# Altium footprint library UserLib.PcbLib: 1 footprints
Each footprint in its own frame and in the unit in brackets; x right, y up, seen from the top. Pads: shape width x height; smd on the part's side, far side on the other; paste and mask are expansions set on the pad; w line width, h text height; cw(c..) or ccw(c..) is an arc to the next point about the centre after c.
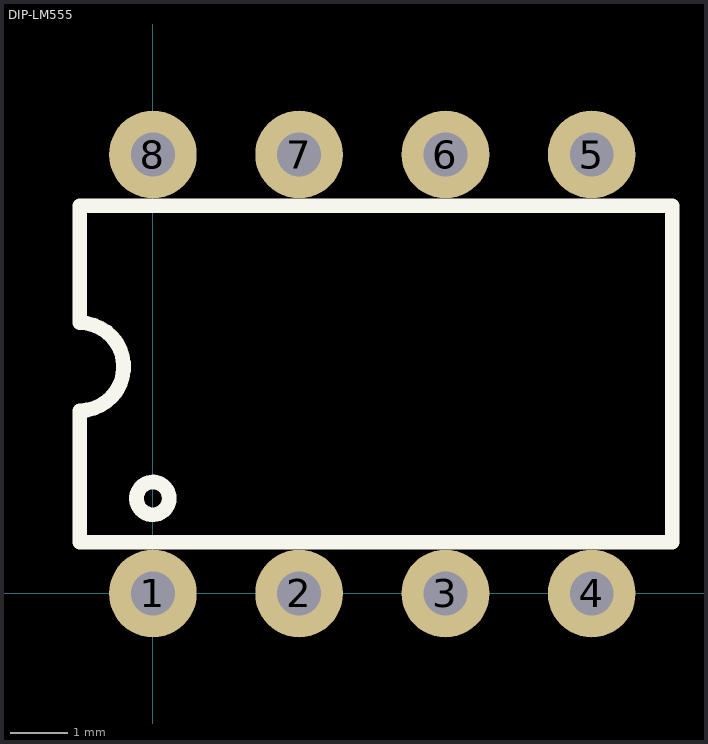
[diagram p0: the footprint, top view; thin cyan lines are the x and y axes]

## DIP-LM555 [mil] "LM555 IC DIP"
pads (9):
  round 60 hole 30: 1(0,0) 1(0,0) 2(100,0) 3(200,0) 4(300,0) 5(300,300) 6(200,300) 7(100,300) 8(0,300)
Top Overlay:
  circle w10: c0,65 r11.18
  lines w10: -50,35 355,35 355,265 -50,265 -50,185 cw(c-50,155) -50,125 -50,35
3D body: height 344.49, standoff -137.8, extent -40,-50 360,350